# Altium schematic symbol library SCH - DAC - LT6654AHS6-5#TRMPBF.SCHLIB: 1 symbol
Pins are listed as number, name and electrical type; pins without a type are passive.

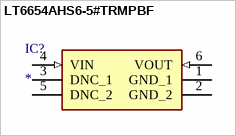
[diagram p0: symbol LT6654AHS6-5#TRMPBF]

## LT6654AHS6-5#TRMPBF
designator IC?
Integrated Circuit; Manufacturer_Name: Analog Devices; Manufacturer_Part_Number: LT6654AHS6-5#TRMPBF; Datasheet Link: https://datasheet.datasheetarchive.com/originals/distributors/Datasheets_SAMA/831097393ba251ce33d430dddaea43ac.pdf; Height: 1mm
footprint SOT95P280X100-6N
pins: 1 GND_1 (power), 2 GND_2 (power), 3 DNC_1, 4 VIN (in), 5 DNC_2, 6 VOUT (in)